# Altium footprint library UM982.PcbLib: 11 footprints
Each footprint in its own frame and in the unit in brackets; x right, y up, seen from the top. Pads: shape width x height; smd on the part's side, far side on the other; paste and mask are expansions set on the pad; w line width, h text height; cw(c..) or ccw(c..) is an arc to the next point about the centre after c.
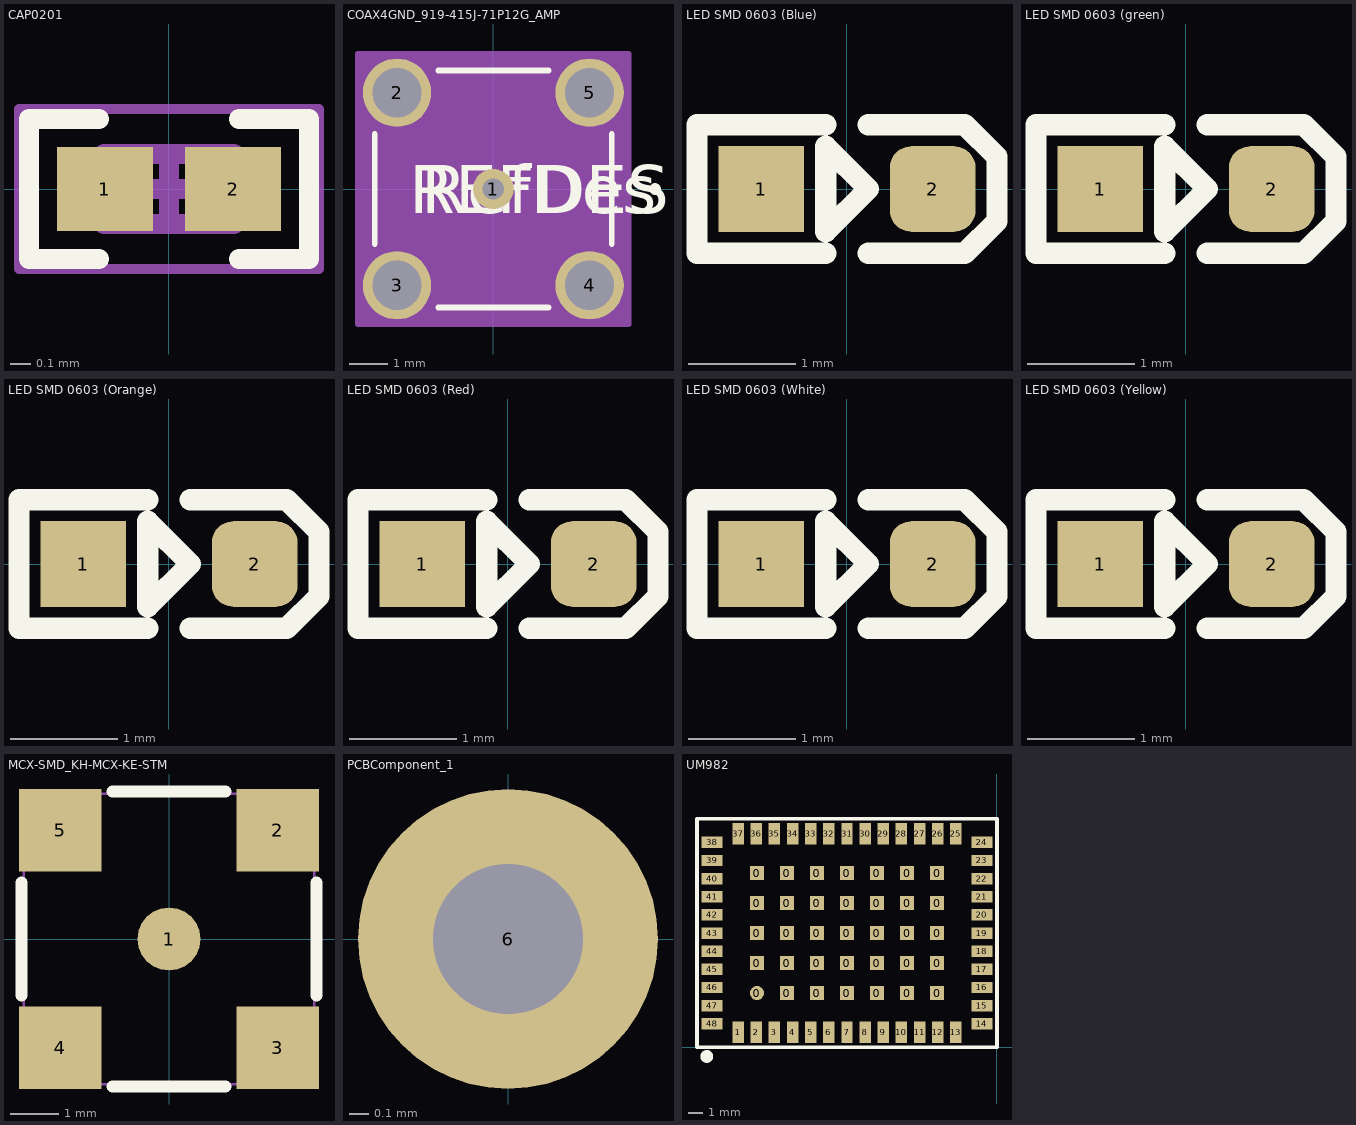
[diagram p0: the footprints below, top view; thin cyan lines are the x and y axes]

## CAP0201 [mm] "Chip Capacitor, 2-Leads, Body 0/60x0/30mm, IPC Medium Density DESIGNER:ABBAS BASEREH"
height 0.23
pads (2):
  rect 0.48x0.42 smd mask+0.04: 1(-0.32,0) 2(0.32,0)
Top Overlay:
  lines w0.1: -0.35,-0.35 -0.7,-0.35 -0.7,0.35 -0.35,0.35 ; 0.35,-0.35 0.7,-0.35 0.7,0.35 0.35,0.35
Mechanical 13:
  lines w0.1: -0.325,-0.175 0.325,-0.175 0.325,0.175 -0.325,0.175 -0.325,-0.175
Mechanical 15:
  lines w0.05: -0.75,-0.4 0.75,-0.4 0.75,0.4 -0.75,0.4 -0.75,-0.4
  lines w0.1: -0.175,0 0.175,0 ; 0,-0.175 0,0.175
3D body "CAP0201.step": height 0.23, standoff 0, extent -0.325,-0.175 0.325,0.175

## COAX4GND_919-415J-71P12G_AMP [mil]
pads (5):
  round 42 / inner round 60 / far side round 42 hole 22 paste-99999 mask+0: 1(0,0)
  round 71 / inner round 60 / far side round 71 hole 51 paste-99999 mask+0: 2(-100,100) 3(-100,-100) 4(100,-100) 5(100,100)
Top Overlay:
  circle w6: c168,0 r3
  lines w6: -123,-57.19 -123,57.19 ; -57.19,-123 57.19,-123 ; -57.19,123 57.19,123 ; 123,-57.19 123,57.19
  text "REFDES" at -87.5,-25 h50
  text "RefDes" at -75,-25 h50
Mechanical 13:
  circle w0: c103,0 r3
  lines w1: -118,-118 -118,118 118,118 118,-118 -118,-118
  text "RefDes2" at -87.5,-25 h50
Mechanical 15:
  region: 140.5,-140.5 -140.5,-140.5 -140.5,140.5 140.5,140.5
  lines w6: -140.5,-140.5 140.5,-140.5 140.5,140.5 -140.5,140.5 -140.5,-140.5
3D body "919-415J-71P12G.stp": height 250, standoff -144.49, extent -123.11,-123.11 113.11,113.11

## LED SMD 0603 (Blue) [mm] "(Make www.tarahiboard.com)"
pads (2):
  rect 0.8x0.8 smd mask+0.075: 1(-0.8,0)
  rrect50% 0.8x0.8 smd mask+0.075: 2(0.8,0)
Top Overlay:
  lines w0.2: -0.2,-0.6 -1.4,-0.6 -1.4,0.6 -0.2,0.6 ; 0.2,-0.6 1.1,-0.6 1.4,-0.3 1.4,0.3 1.1,0.6 0.2,0.6 ; -0.2,-0.4 0.2,0 -0.2,0.4 -0.2,-0.4
3D body: height 0.5, standoff 0, extent -0.4,-0.3 0.4,0.3
3D body: height 0.4, standoff 0, extent -0.6,-0.4 0.6,0.4
3D body: height 0.4, standoff 0, extent -0.8,-0.4 -0.6,0.4
3D body: height 0.4, standoff 0, extent 0.6,-0.4 0.8,0.4

## LED SMD 0603 (green) [mm] "(Make www.tarahiboard.com)"
pads (2):
  rect 0.8x0.8 smd mask+0.075: 1(-0.8,0)
  rrect50% 0.8x0.8 smd mask+0.075: 2(0.8,0)
Top Overlay:
  lines w0.2: -0.2,-0.6 -1.4,-0.6 -1.4,0.6 -0.2,0.6 ; 0.2,-0.6 1.1,-0.6 1.4,-0.3 1.4,0.3 1.1,0.6 0.2,0.6 ; -0.2,-0.4 0.2,0 -0.2,0.4 -0.2,-0.4
3D body: height 0.4, standoff 0, extent 0.6,-0.4 0.8,0.4
3D body: height 0.4, standoff 0, extent -0.8,-0.4 -0.6,0.4
3D body: height 0.4, standoff 0, extent -0.6,-0.4 0.6,0.4
3D body: height 0.5, standoff 0, extent -0.4,-0.3 0.4,0.3

## LED SMD 0603 (Orange) [mm] "(Make www.tarahiboard.com)"
pads (2):
  rect 0.8x0.8 smd mask+0.075: 1(-0.8,0)
  rrect50% 0.8x0.8 smd mask+0.075: 2(0.8,0)
Top Overlay:
  lines w0.2: -0.2,-0.6 -1.4,-0.6 -1.4,0.6 -0.2,0.6 ; 0.2,-0.6 1.1,-0.6 1.4,-0.3 1.4,0.3 1.1,0.6 0.2,0.6 ; -0.2,-0.4 -0.2,0.4 0.2,0 -0.2,-0.4
3D body: height 0.4, standoff 0, extent 0.6,-0.4 0.8,0.4
3D body: height 0.4, standoff 0, extent -0.8,-0.4 -0.6,0.4
3D body: height 0.4, standoff 0, extent -0.6,-0.4 0.6,0.4
3D body: height 0.5, standoff 0, extent -0.4,-0.3 0.4,0.3

## LED SMD 0603 (Red) [mm] "(Make www.tarahiboard.com)"
pads (2):
  rect 0.8x0.8 smd mask+0.075: 1(-0.8,0)
  rrect50% 0.8x0.8 smd mask+0.075: 2(0.8,0)
Top Overlay:
  lines w0.2: -0.2,-0.6 -1.4,-0.6 -1.4,0.6 -0.2,0.6 ; 0.2,-0.6 1.1,-0.6 1.4,-0.3 1.4,0.3 1.1,0.6 0.2,0.6 ; -0.2,-0.4 0.2,0 -0.2,0.4 -0.2,-0.4
3D body: height 0.4, standoff 0, extent 0.6,-0.4 0.8,0.4
3D body: height 0.4, standoff 0, extent -0.8,-0.4 -0.6,0.4
3D body: height 0.4, standoff 0, extent -0.6,-0.4 0.6,0.4
3D body: height 0.5, standoff 0, extent -0.4,-0.3 0.4,0.3

## LED SMD 0603 (White) [mm] "(Make www.tarahiboard.com)"
pads (2):
  rect 0.8x0.8 smd mask+0.075: 1(-0.8,0)
  rrect50% 0.8x0.8 smd mask+0.075: 2(0.8,0)
Top Overlay:
  lines w0.2: -0.2,-0.6 -1.4,-0.6 -1.4,0.6 -0.2,0.6 ; 0.2,-0.6 1.1,-0.6 1.4,-0.3 1.4,0.3 1.1,0.6 0.2,0.6 ; -0.2,-0.4 0.2,0 -0.2,0.4 -0.2,-0.4
3D body: height 0.4, standoff 0, extent 0.6,-0.4 0.8,0.4
3D body: height 0.4, standoff 0, extent -0.8,-0.4 -0.6,0.4
3D body: height 0.4, standoff 0, extent -0.6,-0.4 0.6,0.4
3D body: height 0.5, standoff 0, extent -0.4,-0.3 0.4,0.3

## LED SMD 0603 (Yellow) [mm] "(Make www.tarahiboard.com)"
pads (2):
  rect 0.8x0.8 smd mask+0.075: 1(-0.8,0)
  rrect50% 0.8x0.8 smd mask+0.075: 2(0.8,0)
Top Overlay:
  lines w0.2: -0.2,-0.6 -1.4,-0.6 -1.4,0.6 -0.2,0.6 ; 0.2,-0.6 1.1,-0.6 1.4,-0.3 1.4,0.3 1.1,0.6 0.2,0.6 ; -0.2,-0.4 -0.2,0.4 0.2,0 -0.2,-0.4
3D body: height 0.5, standoff 0, extent -0.4,-0.3 0.4,0.3
3D body: height 0.4, standoff 0, extent -0.6,-0.4 0.6,0.4
3D body: height 0.4, standoff 0, extent -0.8,-0.4 -0.6,0.4
3D body: height 0.4, standoff 0, extent 0.6,-0.4 0.8,0.4

## MCX-SMD_KH-MCX-KE-STM [mm]
pads (5):
  round 1.3 smd: 1(0,0)
  rect 1.7x1.7 smd: 2(2.25,2.25) 3(2.25,-2.25) 4(-2.25,-2.25) 5(-2.25,2.25)
Top Overlay:
  lines w0.254: -3.048,-1.169 -3.048,1.169 ; -1.169,-3.048 1.169,-3.048 ; -1.169,3.048 1.169,3.048 ; 3.048,-1.169 3.048,1.169
Mechanical 15:
  region: -2.94,3 -2.94,2.975 -2.975,2.94 -3.025,2.94 -3.06,2.975 -3.06,3 -3.06,3.025 -3.025,3.06 -2.975,3.06 -2.94,3.025 -2.94,3
  region: 0.5,0 0.5,-0.099 0.424,-0.283 0.283,-0.424 0.099,-0.5 -0.099,-0.5 -0.283,-0.424 -0.424,-0.283 -0.5,-0.099 -0.5,0 -0.5,0.099 -0.424,0.283 -0.283,0.424 -0.099,0.5 0.099,0.5 0.283,0.424 0.424,0.283 0.5,0.099 0.5,0
  region: -3,-1.5 -1.5,-1.5 -1.5,-3 -3,-3
  region: -3,3 -1.5,3 -1.5,1.5 -3,1.5
  region: 1.5,3 3,3 3,1.5 1.5,1.5
  region: 1.5,-1.5 3,-1.5 3,-3 1.5,-3
  lines w0.051: -3,-3 -3,3 3,3 3,-3 -3,-3
3D body "919-415J-71P12G.stp": height 6.35, standoff -3.67, extent -3.127,-3.127 2.873,2.873

## PCBComponent_1 [mil]
pads (1):
  round 60 hole 30: 6(0,0)

## UM982 [mm]
pads (83):
  round 1 smd: 0(-16.8,3.8)
  rect 1x1 smd: 0(-16.8,5.9) 0(-16.8,8) 0(-16.8,10.1) 0(-16.8,12.2) 0(-14.7,3.8) 0(-14.7,5.9) 0(-14.7,8) 0(-14.7,10.1) 0(-14.7,12.2) 0(-12.6,3.8) 0(-12.6,5.9) 0(-12.6,8) 0(-12.6,10.1) 0(-12.6,12.2) 0(-10.5,3.8) 0(-10.5,5.9) 0(-10.5,8) 0(-10.5,10.1) 0(-10.5,12.2) 0(-8.4,3.8) 0(-8.4,5.9) 0(-8.4,8) 0(-8.4,10.1) 0(-8.4,12.2) 0(-6.3,3.8) 0(-6.3,5.9) 0(-6.3,8) 0(-6.3,10.1) 0(-6.3,12.2) 0(-4.2,3.8) 0(-4.2,5.9) 0(-4.2,8) 0(-4.2,10.1) 0(-4.2,12.2)
  rect 0.8x1.5 smd: 1(-18.12,1.05) 2(-16.85,1.05) 3(-15.58,1.05) 4(-14.31,1.05) 5(-13.04,1.05) 6(-11.77,1.05) 7(-10.5,1.05) 8(-9.23,1.05) 9(-7.96,1.05) 10(-6.69,1.05) 11(-5.42,1.05) 12(-4.15,1.05) 13(-2.88,1.05) 25(-2.88,14.95) 26(-4.15,14.95) 27(-5.42,14.95) 28(-6.69,14.95) 29(-7.96,14.95) 30(-9.23,14.95) 31(-10.5,14.95) 32(-11.77,14.95) 33(-13.04,14.95) 34(-14.31,14.95) 35(-15.58,14.95) 36(-16.85,14.95) 37(-18.12,14.95)
  rect 1.5x0.8 smd: 14(-1.05,1.65) 15(-1.05,2.92) 16(-1.05,4.19) 17(-1.05,5.46) 18(-1.05,6.73) 19(-1.05,8) 20(-1.05,9.27) 21(-1.05,10.54) 22(-1.05,11.81) 23(-1.05,13.08) 24(-1.05,14.35) 38(-19.95,14.35) 39(-19.95,13.08) 40(-19.95,11.81) 41(-19.95,10.54) 42(-19.95,9.27) 43(-19.95,8) 44(-19.95,6.73) 45(-19.95,5.46) 46(-19.95,4.19) 47(-19.95,2.92) 48(-19.95,1.65)
Top Overlay:
  circle w0.5: c-20.32,-0.635 r0.2
  lines w0.254: -21,0 -21,16 0,16 0,0 -21,0
3D body "UM982.stp": height 2.6, standoff 0, extent -20.955,0.001 0.045,16.001